# Altium footprint library 0603-SPE-LED.PcbLib: 1 footprints
Each footprint in its own frame and in the unit in brackets; x right, y up, seen from the top. Pads: shape width x height; smd on the part's side, far side on the other; paste and mask are expansions set on the pad; w line width, h text height; cw(c..) or ccw(c..) is an arc to the next point about the centre after c.
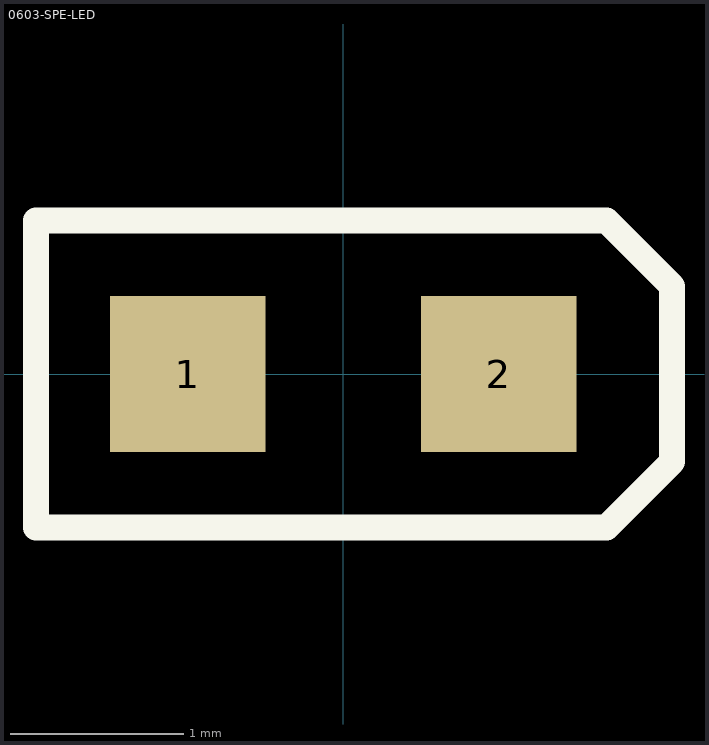
[diagram p0: the footprint, top view; thin cyan lines are the x and y axes]

## 0603-SPE-LED [mm]
pads (2):
  rect 0.9x0.9 smd: 1(-0.9,0) 2(0.9,0)
Top Overlay:
  lines w0.15: -1.778,-0.889 -1.778,0.889 1.016,0.889 1.524,0.889 1.651,0.762 1.905,0.508 1.905,-0.508 1.651,-0.762 1.524,-0.889 1.016,-0.889 -1.778,-0.889
3D body: height 0.68, standoff 0, extent -0.843,-0.368 0.807,0.357